# Altium schematic symbol library BJT-NPN.SchLib: 1 symbol
Pins are listed as number, name and electrical type; pins without a type are passive.

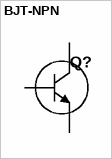
[diagram p0: symbol BJT-NPN]

## BJT-NPN
designator Q?
pins: 1 B, 2 E, 3 C